# Altium schematic symbol library C1812C222F1GACTU.SchLib: 1 symbol
Pins are listed as number, name and electrical type; pins without a type are passive.

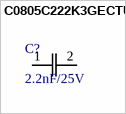
[diagram p0: symbol C0805C222K3GECTU]

## C0805C222K3GECTU
designator C?, comment 2.2nF/25V
2.2nF ±10% 25V Ceramic Capacitor C0G, NP0 0805 (2012 Metric); Mfr_Name: Kemet; Manufacturer Part Number: C0805C222K3GECTU; Supplier: Digikey; Supplier Part Number: 399-C0805C222K3GECTUCT-ND; Manufacturer: KEMET; RoHS: Yes; Stock: 4796; Pricing: 1=0.2, 10=0.117, 100=0.0734, 1000=0.05087 (USD); RoHS Compliant: Yes
footprint CAPC220145_88N_KEM
pins: 1, 2